# EAGLE library part 218-04_S (library switch-dil)
DIP SWITCH
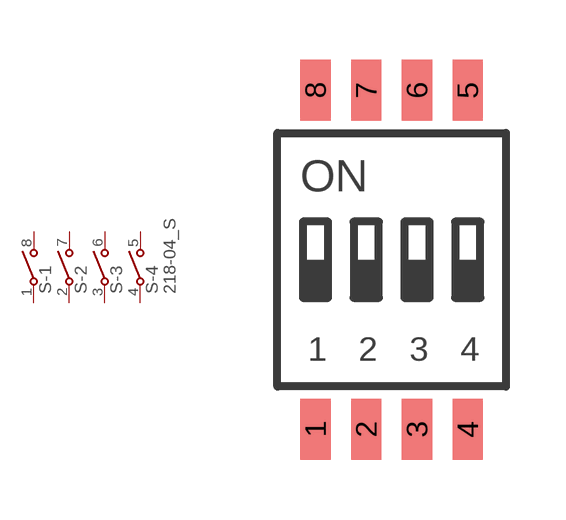
[diagram p77: symbol with the pads of 218-04; footprint 218-04]

Designator prefix S; gates -1=S -2=S -3=S -4=S+V

## 218-04_S  [218-04]
1  -1:1  pas
2  -2:1  pas
3  -3:1  pas
4  -4:1  pas
5  -4:2  pas
6  -3:2  pas
7  -2:2  pas
8  -1:2  pas

## Footprint 218-04 (pad centres in mm)
CTS SERIES 218LP - Gull Wing Terminal
smd 0.762 x 1.524: 1 -1.905,-4.245; 2 -0.635,-4.245; 3 0.635,-4.245; 4 1.905,-4.245; 5 1.905,4.245; 6 0.635,4.245; 7 -0.635,4.245; 8 -1.905,4.245